# EAGLE library part CON_HEADER_2X03 (library dp_devices)
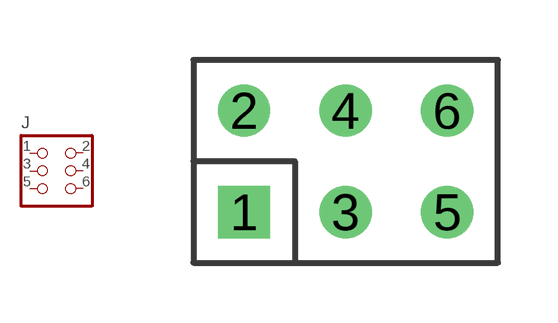
[diagram p10: symbol with the pads of M2X3; footprint M2X3]

Designator prefix J

## CON_HEADER_2X03-PTH  [M2X3]
1  1  pas
2  2  pas
3  3  pas
4  4  pas
5  5  pas
6  6  pas

## Footprint M2X3 (pad centres in mm)
drill 0.8 square: 1 -2.54,-1.27
drill 0.8 round: 2 -2.54,1.27; 3 0,-1.27; 4 0,1.27; 5 2.54,-1.27; 6 2.54,1.27